# Altium footprint library TSOT23-8.PcbLib: 1 footprints
Each footprint in its own frame and in the unit in brackets; x right, y up, seen from the top. Pads: shape width x height; smd on the part's side, far side on the other; paste and mask are expansions set on the pad; w line width, h text height; cw(c..) or ccw(c..) is an arc to the next point about the centre after c.
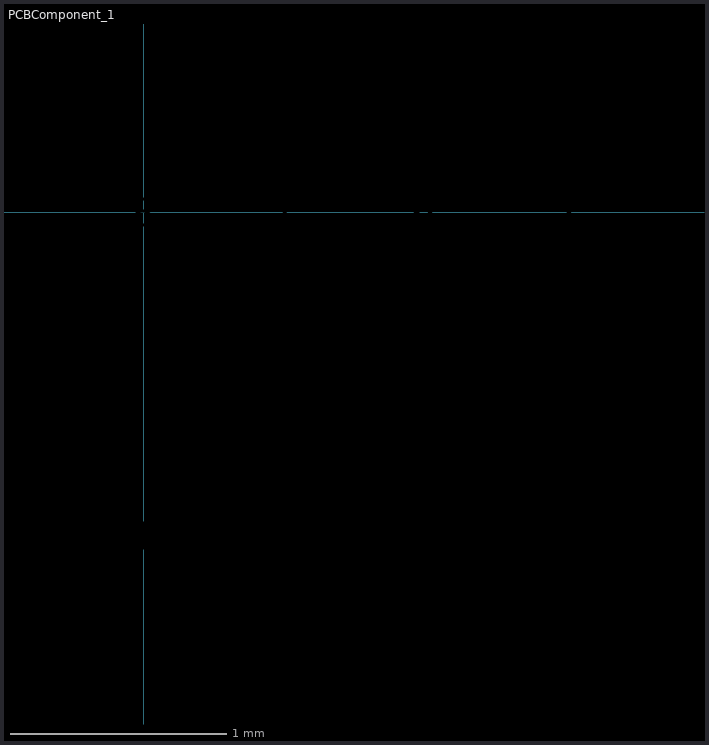
[diagram p0: the footprint, top view; thin cyan lines are the x and y axes]

## PCBComponent_1 [mm]
pads (8):
  rect 0.524x1 on Top Solder: 1(0,-1.5) 2(0.65,-1.5) 3(1.3,-1.5) 4(1.95,-1.5) 5(1.95,0) 6(1.3,0) 7(0.65,0) 8(0,0)
Mechanical 1:
  text "1" at -0.15,-3.2 h1